# EAGLE library part LT3433 (library ic-LT)
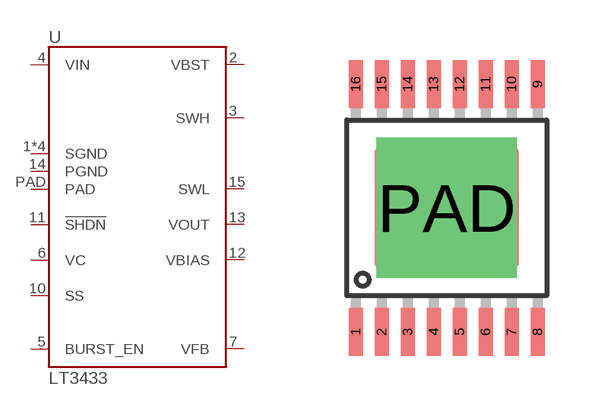
[diagram p7: symbol with the pads of TSSOP16-PAD; footprint TSSOP16-PAD]

Designator prefix U

## LT3433  [TSSOP16-PAD]
1  SGND
2  VBST
3  SWH
4  VIN
5  BURST_EN
6  VC
7  VFB
8  SGND
9  SGND
10  SS
11  !SHDN
12  VBIAS
13  VOUT
14  PGND
15  SWL
16  SGND
PAD  PAD

## Footprint TSSOP16-PAD (pad centres in mm)
smd 0.35 x 1.2: 1 -2.275,-3.1; 2 -1.625,-3.1; 3 -0.975,-3.1; 4 -0.325,-3.1; 5 0.325,-3.1; 6 0.975,-3.1; 7 1.625,-3.1; 8 2.275,-3.1; 9 2.275,3.1; 10 1.625,3.1; 11 0.975,3.1; 12 0.325,3.1; 13 -0.325,3.1; 14 -0.975,3.1; 15 -1.625,3.1; 16 -2.275,3.1
drill 2.5 pad 3 square: PAD 0,0